# EAGLE library part TPS2553DRVT-1 (library Joule Expansion Board)
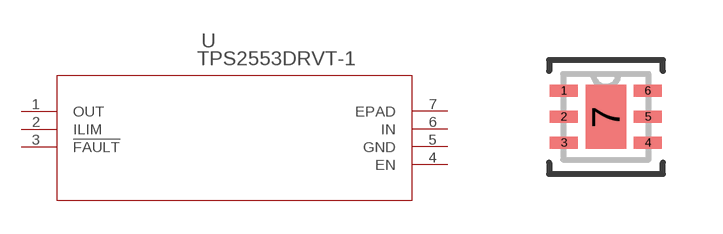
[diagram p1: symbol with the pads of DRV6_1P6X1; footprint DRV6_1P6X1]

Designator prefix -

## TPS2553DRVT-1 (MANUFACTURER_PART_NUMBER: tps25531_drv_6; VENDOR: Texas Instruments)  [DRV6_1P6X1]
1  OUT  out
2  ILIM  out
3  !FAULT  out
4  EN  in
5  GND  pwr
6  IN  in
7  EPAD  pas

## Footprint DRV6_1P6X1 (pad centres in mm)
smd 0.7 x 0.3: 1 -1.05,0.65; 2 -1.05,0; 3 -1.05,-0.65; 4 1.05,-0.65; 5 1.05,0; 6 1.05,0.65
smd 1.016 x 1.6: 7 0,0